# EAGLE library part ESP32_TTGO_T7 (library IntelMKR_ExpP)
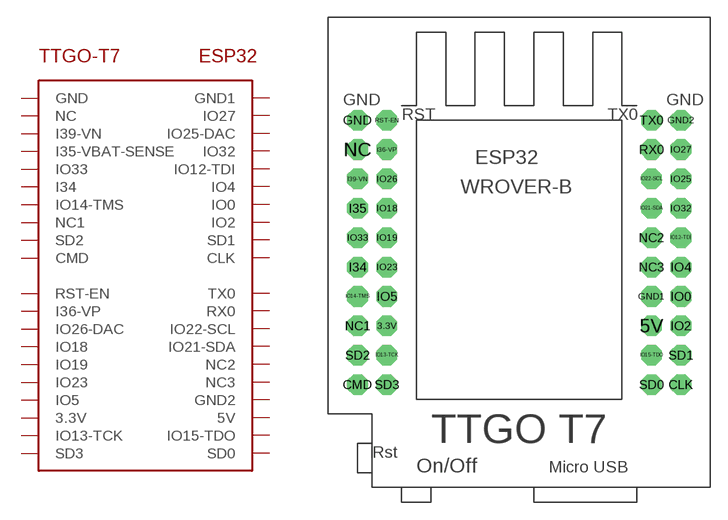
[diagram p6: symbol with the pads of ESP32_TTGO_T7; footprint ESP32_TTGO_T7]

Designator prefix -

## ESP32_TTGO_T7  [ESP32_TTGO_T7]
3.3V  3.3V  pwr
5V  5V  pwr
CLK  CLK
CMD  CMD
GND  GND  pwr
GND1  GND1  pwr
GND2  GND2  pwr
I34  I34  in
I35  I35-VBAT-SENSE  in
I36-VP  I36-VP  in
I39-VN  I39-VN  in
IO0  IO0
IO2  IO2
IO4  IO4
IO5  IO5
IO12-TDI  IO12-TDI
IO13-TCK  IO13-TCK
IO14-TMS  IO14-TMS
IO15-TDO  IO15-TDO
IO18  IO18
IO19  IO19
IO21-SDA  IO21-SDA
IO22-SCL  IO22-SCL
IO23  IO23
IO25  IO25-DAC
IO26  IO26-DAC
IO27  IO27
IO32  IO32
IO33  IO33
NC  NC  nc
NC1  NC1  nc
NC2  NC2  nc
NC3  NC3  nc
RST-EN  RST-EN  in
RX0  RX0
SD0  SD0
SD1  SD1
SD2  SD2
SD3  SD3
TX0  TX0

## Footprint ESP32_TTGO_T7 (pad centres in mm)
drill 1.016 pad 1.778 octagon: 3.3V -11.43,-6.35; 5V 11.43,-6.35; CLK 13.97,-11.43; CMD -13.97,-11.43; GND -13.97,11.43; GND1 11.43,-3.81; GND2 13.97,11.43; I34 -13.97,-1.27; I35 -13.97,3.81; I36-VP -11.43,8.89; I39-VN -13.97,6.35; IO0 13.97,-3.81; IO2 13.97,-6.35; IO4 13.97,-1.27; IO5 -11.43,-3.81; IO12-TDI 13.97,1.27; IO13-TCK -11.43,-8.89; IO14-TMS -13.97,-3.81; IO15-TDO 11.43,-8.89; IO18 -11.43,3.81; IO19 -11.43,1.27; IO21-SDA 11.43,3.81; IO22-SCL 11.43,6.35; IO23 -11.43,-1.27; IO25 13.97,6.35; IO26 -11.43,6.35; IO27 13.97,8.89; IO32 13.97,3.81; IO33 -13.97,1.27; NC -13.97,8.89; NC1 -13.97,-6.35; NC2 11.43,1.27; NC3 11.43,-1.27; RST-EN -11.43,11.43; RX0 11.43,8.89; SD0 11.43,-11.43; SD1 13.97,-8.89; SD2 -13.97,-8.89; SD3 -11.43,-11.43; TX0 11.43,11.43